# Altium footprint library STS40BD1BR3.PcbLib: 1 footprints
Each footprint in its own frame and in the unit in brackets; x right, y up, seen from the top. Pads: shape width x height; smd on the part's side, far side on the other; paste and mask are expansions set on the pad; w line width, h text height; cw(c..) or ccw(c..) is an arc to the next point about the centre after c.
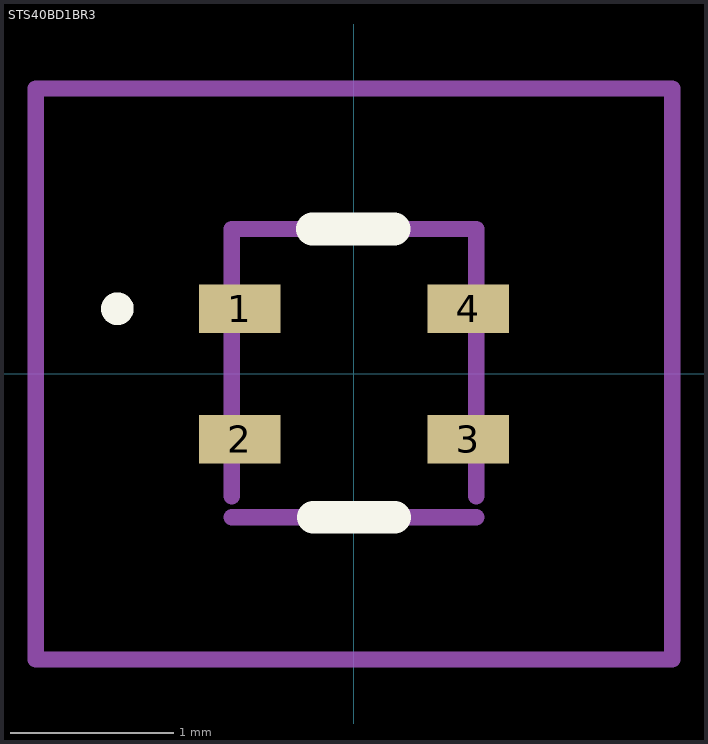
[diagram p0: the footprint, top view; thin cyan lines are the x and y axes]

## STS40BD1BR3 [mm]
pads (4):
  rect 0.5x0.3 smd: 1(-0.7,0.4) 2(-0.7,-0.4) 3(0.7,-0.4) 4(0.7,0.4)
Top Overlay:
  lines w0.1: -1.5,0.4 cw(c-1.45,0.4) -1.4,0.4 cw(c-1.45,0.4) -1.5,0.4
  lines w0.2: -0.254,0.889 0.246,0.889 ; -0.25,-0.877 0.25,-0.877
Mechanical 15:
  lines w0.1: -0.75,-0.877 0.75,-0.877 ; -0.75,-0.75 -0.75,0.889 0.75,0.889 0.75,-0.75
Mechanical 20:
  lines w0.1: -1.95,-1.75 1.95,-1.75 1.95,1.75 -1.95,1.75 -1.95,-1.75
3D body "STS40-BD1B-R3.stp": height 0.75, standoff 0, extent -0.75,-0.75 0.75,0.75